# EAGLE library part RNETI8 (library DAC)
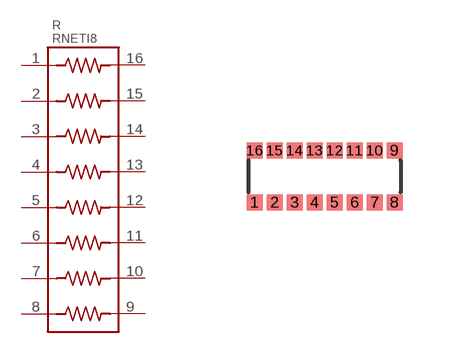
[diagram p46: symbol with the pads of EXB2HV; footprint EXB2HV]

Designator prefix R

## RNETI8  [EXB2HV]
1  P$1  pas
2  P$2  pas
3  P$3  pas
4  P$4  pas
5  P$5  pas
6  P$6  pas
7  P$7  pas
8  P$8  pas
9  P$9  pas
10  P$10  pas
11  P$11  pas
12  P$12  pas
13  P$13  pas
14  P$14  pas
15  P$15  pas
16  P$16  pas

## Footprint EXB2HV (pad centres in mm)
smd 0.4 x 0.4: 1 -1.75,-0.65; 2 -1.25,-0.65; 3 -0.75,-0.65; 4 -0.25,-0.65; 5 0.25,-0.65; 6 0.75,-0.65; 7 1.25,-0.65; 8 1.75,-0.65; 9 1.75,0.65; 10 1.25,0.65; 11 0.75,0.65; 12 0.25,0.65; 13 -0.25,0.65; 14 -0.75,0.65; 15 -1.25,0.65; 16 -1.75,0.65